# Altium integrated library Linear Technology Power Management uModule Regulators.IntLib: 166 symbols (part 21 of 67)
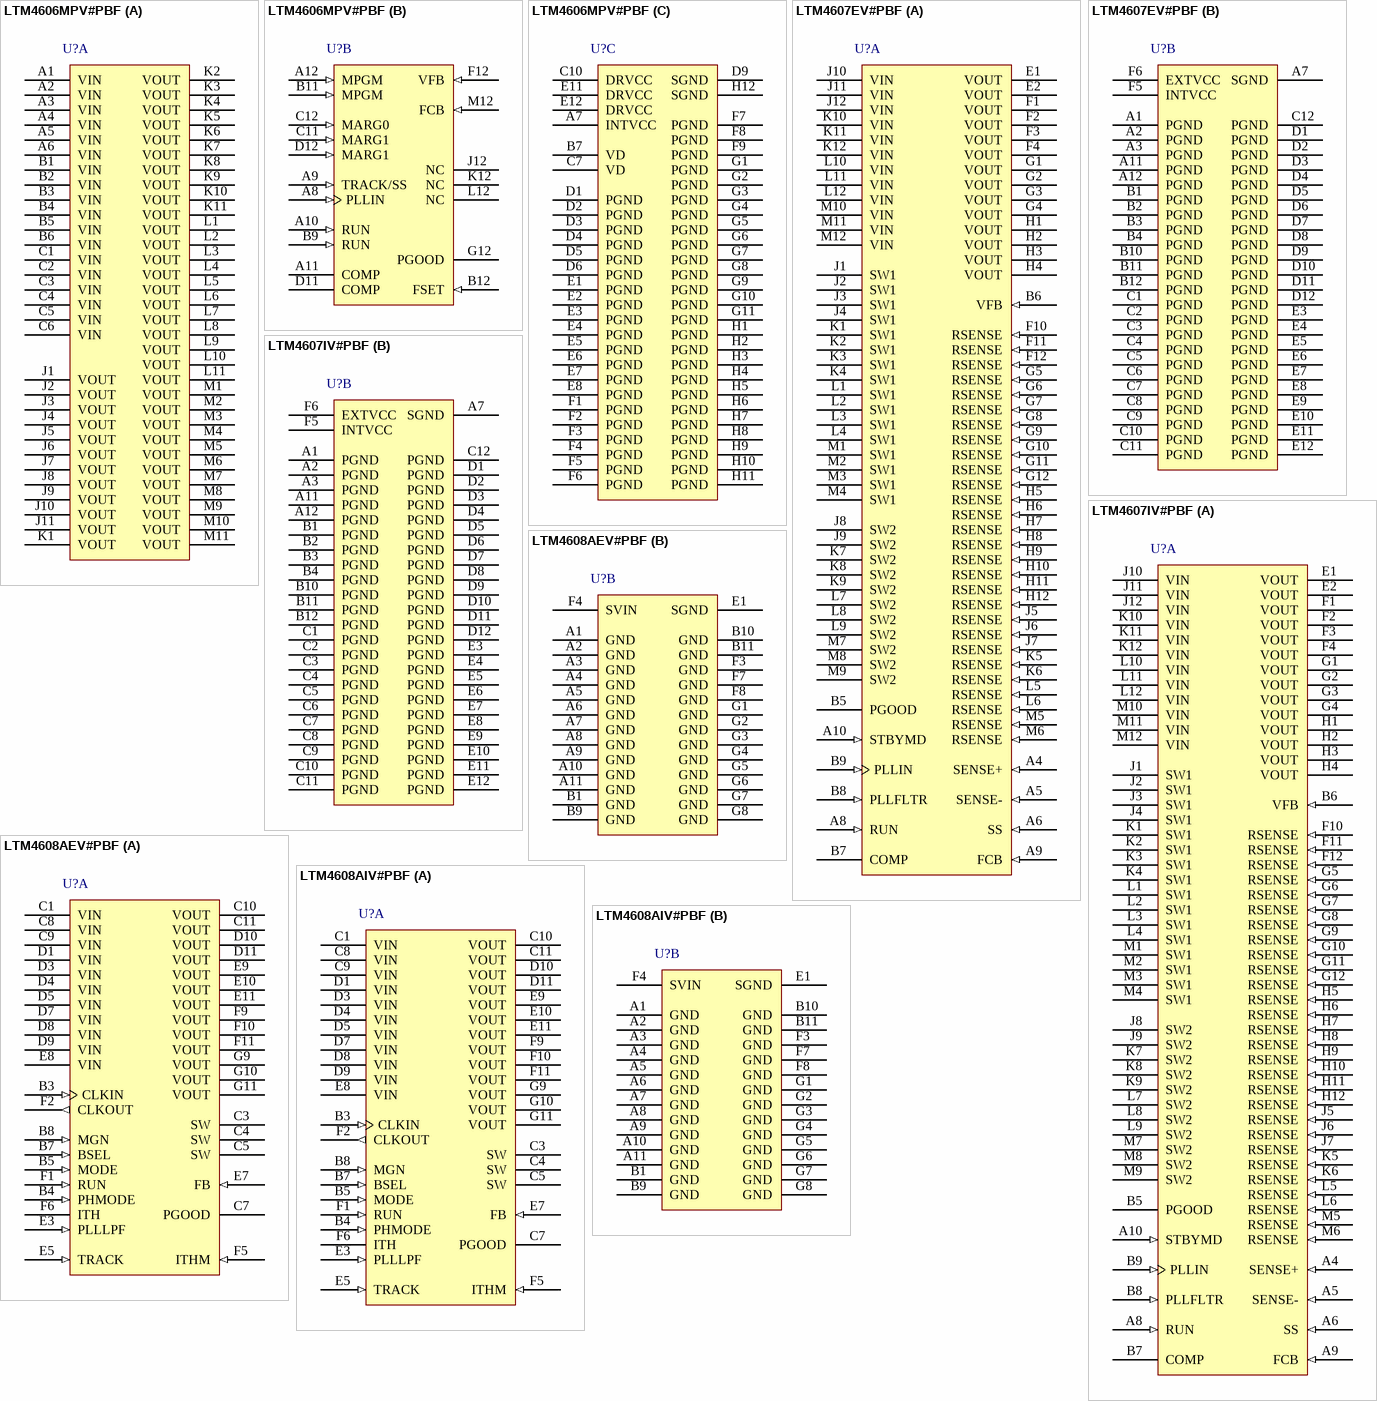
[diagram p47: symbols LTM4606MPV#PBF to LTM4608AIV#PBF]

## LTM4607EV#PBF
designator U?
36 VIN, 24 VOUT High Efficiency Buck-Boost DC/DC uModule Regulator, 141-pin LGA, -40 to 85 degC, Pb-Free, Tray; Manufacturer: Linear Technology; PartNumber: LTM4607EV#PBF; Extended Temp: E, I; Frequency Sync Range: 200kHz - 400kHz; Frequency(kHz): 200; Ishutdown(uA): 35; Isupply(mA): 2.8; Number of Outputs: 1; Output Current(A): 5; Synchronous: yes; Tracking: no; Vin Max(V): 36; Vin Min(V): 4.5; Vout Max(V): 24; Vout Min(V): 0.8; DatasheetVersion: Rev. B; PackageVersion: Rev. C, 02/2013; PackageReference: LGA-141; PackageDescription: 141-Pin LGA, Body 15 x 15 mm, Pitch 1.27 mm; Supplier 1: Digi-Key; Supplier Part Number 1: LTM4607EV#PBF-ND; Supplier 2: Farnell; Supplier Part Number 2: 1710871; Supplier 3: Newark; Supplier Part Number 3: 79M3636; Packing: Tray; RoHS: TRUE; Topology: Buck-Boost; Mounting Technology: Surface Mount; Code_JEDEC: MO-222; ComponentLink1Description: Manufacturer URL; ComponentLink1URL: http://www.linear.com/; ComponentLink2Description: Datasheet; ComponentLink2URL: http://cds.linear.com/docs/en/datasheet/4607fb.pdf; ComponentLink3Description: Package Specification; ComponentLink3URL: http://cds.linear.com/docs/en/packaging/05081815_C_lga141.pdf
footprint LT-LGA-141-05-08-1815_V (LGA, 141-Leads, Body 15x15mm, Pitch 1.27mm)
part A pins: A4 SENSE+ (in) "Positive Input to the Current Sense and Reverse Current Detect Comparators.", A5 SENSE- (in) "Negative Input to the Current Sense and Reverse Current Detect Comparators.", A6 SS (in) "Soft-Start Pin. Soft-start reduces the input surge current from the power source by gradually increasing the controller’s current limit.", A8 RUN (in) "Run Control Pin. A voltage below 1.6V will turn off the module. There is a 100k resistor between the RUN pin and SGND in the module. Do not apply more than 6V to this pin. See the Applications Information section.", A9 FCB (in) "Forced Continuous Control Input. The voltage applied to this pin sets the operating mode of the module. When the applied voltage is less than 0.8V, the forced continuous current mode is active in boost operation and the skip (See Datasheet)", A10 STBYMD (in) "LDO Control Pin. Determines whether the internal LDO remains active when the controller is shut down. See Operations section for details. If the STBYMD pin is pulled to ground, the SS pin is internally pulled to ground to (See Datasheet)", B5 PGOOD (oc), B6 VFB (in) "The Negative Input of the Error Amplifier. Internally, this pin is connected to VOUT with a 100k precision resistor. Different output voltages can be programmed with an additional resistor between VFB and SGND pins. See the (See Datasheet)", B7 COMP "Current Control Threshold and Error Amplifier Compensation Point. The current comparator threshold increases with this control voltage. The voltage ranges from 0V to 2.4V.", B8 PLLFLTR (in) "The lowpass filter of the phase-locked loop is tied to this pin. This pin can also be used to set the frequency of the internal oscillator with an AC or DC voltage. See the Applications Information section for details.", B9 PLLIN (in) "External Clock Synchronization Input to the Phase Detector. This pin is internally terminated to SGND with a 50k resistor. The phase-locked loop will force the rising bottom gate signal of the controller to be synchronized (See Datasheet)", E1 VOUT (power) "Power Output Pins. Apply output load between these pins and PGND pins. Recommend placing output decoupling capacitance directly between these pins and PGND pins.", E2 VOUT (power) "Power Output Pins. Apply output load between these pins and PGND pins. Recommend placing output decoupling capacitance directly between these pins and PGND pins.", F1 VOUT (power) "Power Output Pins. Apply output load between these pins and PGND pins. Recommend placing output decoupling capacitance directly between these pins and PGND pins.", F2 VOUT (power) "Power Output Pins. Apply output load between these pins and PGND pins. Recommend placing output decoupling capacitance directly between these pins and PGND pins.", F3 VOUT (power) "Power Output Pins. Apply output load between these pins and PGND pins. Recommend placing output decoupling capacitance directly between these pins and PGND pins.", F4 VOUT (power) "Power Output Pins. Apply output load between these pins and PGND pins. Recommend placing output decoupling capacitance directly between these pins and PGND pins.", F10 RSENSE (in) "Sensing Resistor Pin. The sensing resistor is connected from this pin to PGND.", F11 RSENSE (in) "Sensing Resistor Pin. The sensing resistor is connected from this pin to PGND.", F12 RSENSE (in) "Sensing Resistor Pin. The sensing resistor is connected from this pin to PGND.", G1 VOUT (power) "Power Output Pins. Apply output load between these pins and PGND pins. Recommend placing output decoupling capacitance directly between these pins and PGND pins.", G2 VOUT (power) "Power Output Pins. Apply output load between these pins and PGND pins. Recommend placing output decoupling capacitance directly between these pins and PGND pins.", G3 VOUT (power) "Power Output Pins. Apply output load between these pins and PGND pins. Recommend placing output decoupling capacitance directly between these pins and PGND pins.", G4 VOUT (power) "Power Output Pins. Apply output load between these pins and PGND pins. Recommend placing output decoupling capacitance directly between these pins and PGND pins.", G5 RSENSE (in) "Sensing Resistor Pin. The sensing resistor is connected from this pin to PGND.", G6 RSENSE (in) "Sensing Resistor Pin. The sensing resistor is connected from this pin to PGND.", G7 RSENSE (in) "Sensing Resistor Pin. The sensing resistor is connected from this pin to PGND.", G8 RSENSE (in) "Sensing Resistor Pin. The sensing resistor is connected from this pin to PGND.", G9 RSENSE (in) "Sensing Resistor Pin. The sensing resistor is connected from this pin to PGND.", G10 RSENSE (in) "Sensing Resistor Pin. The sensing resistor is connected from this pin to PGND.", G11 RSENSE (in) "Sensing Resistor Pin. The sensing resistor is connected from this pin to PGND.", G12 RSENSE (in) "Sensing Resistor Pin. The sensing resistor is connected from this pin to PGND.", H1 VOUT (power) "Power Output Pins. Apply output load between these pins and PGND pins. Recommend placing output decoupling capacitance directly between these pins and PGND pins.", H2 VOUT (power) "Power Output Pins. Apply output load between these pins and PGND pins. Recommend placing output decoupling capacitance directly between these pins and PGND pins.", H3 VOUT (power) "Power Output Pins. Apply output load between these pins and PGND pins. Recommend placing output decoupling capacitance directly between these pins and PGND pins.", H4 VOUT (power) "Power Output Pins. Apply output load between these pins and PGND pins. Recommend placing output decoupling capacitance directly between these pins and PGND pins.", H5 RSENSE (in) "Sensing Resistor Pin. The sensing resistor is connected from this pin to PGND.", H6 RSENSE (in) "Sensing Resistor Pin. The sensing resistor is connected from this pin to PGND.", H7 RSENSE (in) "Sensing Resistor Pin. The sensing resistor is connected from this pin to PGND.", H8 RSENSE (in) "Sensing Resistor Pin. The sensing resistor is connected from this pin to PGND.", H9 RSENSE (in) "Sensing Resistor Pin. The sensing resistor is connected from this pin to PGND.", H10 RSENSE (in) "Sensing Resistor Pin. The sensing resistor is connected from this pin to PGND.", H11 RSENSE (in) "Sensing Resistor Pin. The sensing resistor is connected from this pin to PGND.", H12 RSENSE (in) "Sensing Resistor Pin. The sensing resistor is connected from this pin to PGND.", J1 SW1 "Switch Nodes. The power inductor is connected between SW1 and SW2.", J2 SW1 "Switch Nodes. The power inductor is connected between SW1 and SW2.", J3 SW1 "Switch Nodes. The power inductor is connected between SW1 and SW2.", J4 SW1 "Switch Nodes. The power inductor is connected between SW1 and SW2.", J5 RSENSE (in) "Sensing Resistor Pin. The sensing resistor is connected from this pin to PGND.", J6 RSENSE (in) "Sensing Resistor Pin. The sensing resistor is connected from this pin to PGND.", J7 RSENSE (in) "Sensing Resistor Pin. The sensing resistor is connected from this pin to PGND.", J8 SW2 "Switch Nodes. The power inductor is connected between SW1 and SW2.", J9 SW2 "Switch Nodes. The power inductor is connected between SW1 and SW2.", J10 VIN (power) "Power Input Pins. Apply input voltage between these pins and PGND pins. Recommend placing input decoupling capacitance directly between VIN pins and PGND pins.", J11 VIN (power) "Power Input Pins. Apply input voltage between these pins and PGND pins. Recommend placing input decoupling capacitance directly between VIN pins and PGND pins.", J12 VIN (power) "Power Input Pins. Apply input voltage between these pins and PGND pins. Recommend placing input decoupling capacitance directly between VIN pins and PGND pins.", K1 SW1 "Switch Nodes. The power inductor is connected between SW1 and SW2.", K2 SW1 "Switch Nodes. The power inductor is connected between SW1 and SW2.", K3 SW1 "Switch Nodes. The power inductor is connected between SW1 and SW2.", K4 SW1 "Switch Nodes. The power inductor is connected between SW1 and SW2.", K5 RSENSE (in) "Sensing Resistor Pin. The sensing resistor is connected from this pin to PGND.", K6 RSENSE (in) "Sensing Resistor Pin. The sensing resistor is connected from this pin to PGND.", K7 SW2 "Switch Nodes. The power inductor is connected between SW1 and SW2.", K8 SW2 "Switch Nodes. The power inductor is connected between SW1 and SW2.", K9 SW2 "Switch Nodes. The power inductor is connected between SW1 and SW2.", K10 VIN (power) "Power Input Pins. Apply input voltage between these pins and PGND pins. Recommend placing input decoupling capacitance directly between VIN pins and PGND pins.", K11 VIN (power) "Power Input Pins. Apply input voltage between these pins and PGND pins. Recommend placing input decoupling capacitance directly between VIN pins and PGND pins.", K12 VIN (power) "Power Input Pins. Apply input voltage between these pins and PGND pins. Recommend placing input decoupling capacitance directly between VIN pins and PGND pins.", L1 SW1 "Switch Nodes. The power inductor is connected between SW1 and SW2.", L2 SW1 "Switch Nodes. The power inductor is connected between SW1 and SW2.", L3 SW1 "Switch Nodes. The power inductor is connected between SW1 and SW2.", L4 SW1 "Switch Nodes. The power inductor is connected between SW1 and SW2.", L5 RSENSE (in) "Sensing Resistor Pin. The sensing resistor is connected from this pin to PGND.", L6 RSENSE (in) "Sensing Resistor Pin. The sensing resistor is connected from this pin to PGND.", L7 SW2 "Switch Nodes. The power inductor is connected between SW1 and SW2.", L8 SW2 "Switch Nodes. The power inductor is connected between SW1 and SW2.", L9 SW2 "Switch Nodes. The power inductor is connected between SW1 and SW2.", L10 VIN (power) "Power Input Pins. Apply input voltage between these pins and PGND pins. Recommend placing input decoupling capacitance directly between VIN pins and PGND pins.", L11 VIN (power) "Power Input Pins. Apply input voltage between these pins and PGND pins. Recommend placing input decoupling capacitance directly between VIN pins and PGND pins.", L12 VIN (power) "Power Input Pins. Apply input voltage between these pins and PGND pins. Recommend placing input decoupling capacitance directly between VIN pins and PGND pins.", M1 SW1 "Switch Nodes. The power inductor is connected between SW1 and SW2.", M2 SW1 "Switch Nodes. The power inductor is connected between SW1 and SW2.", M3 SW1 "Switch Nodes. The power inductor is connected between SW1 and SW2.", M4 SW1 "Switch Nodes. The power inductor is connected between SW1 and SW2.", M5 RSENSE (in) "Sensing Resistor Pin. The sensing resistor is connected from this pin to PGND.", M6 RSENSE (in) "Sensing Resistor Pin. The sensing resistor is connected from this pin to PGND.", M7 SW2 "Switch Nodes. The power inductor is connected between SW1 and SW2.", M8 SW2 "Switch Nodes. The power inductor is connected between SW1 and SW2.", M9 SW2 "Switch Nodes. The power inductor is connected between SW1 and SW2.", M10 VIN (power) "Power Input Pins. Apply input voltage between these pins and PGND pins. Recommend placing input decoupling capacitance directly between VIN pins and PGND pins.", M11 VIN (power) "Power Input Pins. Apply input voltage between these pins and PGND pins. Recommend placing input decoupling capacitance directly between VIN pins and PGND pins.", M12 VIN (power) "Power Input Pins. Apply input voltage between these pins and PGND pins. Recommend placing input decoupling capacitance directly between VIN pins and PGND pins."
part B pins: A1 PGND (power) "Power Ground Pins for Both Input and Output Returns.", A2 PGND (power) "Power Ground Pins for Both Input and Output Returns.", A3 PGND (power) "Power Ground Pins for Both Input and Output Returns.", A7 SGND (power) "Signal Ground Pin. This pin connects to PGND at output capacitor point.", A11 PGND (power) "Power Ground Pins for Both Input and Output Returns.", A12 PGND (power) "Power Ground Pins for Both Input and Output Returns.", B1 PGND (power) "Power Ground Pins for Both Input and Output Returns.", B2 PGND (power) "Power Ground Pins for Both Input and Output Returns.", B3 PGND (power) "Power Ground Pins for Both Input and Output Returns.", B4 PGND (power) "Power Ground Pins for Both Input and Output Returns.", B10 PGND (power) "Power Ground Pins for Both Input and Output Returns.", B11 PGND (power) "Power Ground Pins for Both Input and Output Returns.", B12 PGND (power) "Power Ground Pins for Both Input and Output Returns.", C1 PGND (power) "Power Ground Pins for Both Input and Output Returns.", C2 PGND (power) "Power Ground Pins for Both Input and Output Returns.", C3 PGND (power) "Power Ground Pins for Both Input and Output Returns.", C4 PGND (power) "Power Ground Pins for Both Input and Output Returns.", C5 PGND (power) "Power Ground Pins for Both Input and Output Returns.", C6 PGND (power) "Power Ground Pins for Both Input and Output Returns.", C7 PGND (power) "Power Ground Pins for Both Input and Output Returns.", C8 PGND (power) "Power Ground Pins for Both Input and Output Returns.", C9 PGND (power) "Power Ground Pins for Both Input and Output Returns.", C10 PGND (power) "Power Ground Pins for Both Input and Output Returns.", C11 PGND (power) "Power Ground Pins for Both Input and Output Returns.", C12 PGND (power) "Power Ground Pins for Both Input and Output Returns.", D1 PGND (power) "Power Ground Pins for Both Input and Output Returns.", D2 PGND (power) "Power Ground Pins for Both Input and Output Returns.", D3 PGND (power) "Power Ground Pins for Both Input and Output Returns.", D4 PGND (power) "Power Ground Pins for Both Input and Output Returns.", D5 PGND (power) "Power Ground Pins for Both Input and Output Returns.", D6 PGND (power) "Power Ground Pins for Both Input and Output Returns.", D7 PGND (power) "Power Ground Pins for Both Input and Output Returns.", D8 PGND (power) "Power Ground Pins for Both Input and Output Returns.", D9 PGND (power) "Power Ground Pins for Both Input and Output Returns.", D10 PGND (power) "Power Ground Pins for Both Input and Output Returns.", D11 PGND (power) "Power Ground Pins for Both Input and Output Returns.", D12 PGND (power) "Power Ground Pins for Both Input and Output Returns.", E3 PGND (power) "Power Ground Pins for Both Input and Output Returns.", E4 PGND (power) "Power Ground Pins for Both Input and Output Returns.", E5 PGND (power) "Power Ground Pins for Both Input and Output Returns.", E6 PGND (power) "Power Ground Pins for Both Input and Output Returns.", E7 PGND (power) "Power Ground Pins for Both Input and Output Returns.", E8 PGND (power) "Power Ground Pins for Both Input and Output Returns.", E9 PGND (power) "Power Ground Pins for Both Input and Output Returns.", E10 PGND (power) "Power Ground Pins for Both Input and Output Returns.", E11 PGND (power) "Power Ground Pins for Both Input and Output Returns.", E12 PGND (power) "Power Ground Pins for Both Input and Output Returns.", F5 INTVCC (power), F6 EXTVCC (power) "External VCC Input. When EXTVCC exceeds 5.7V, an internal switch connects this pin to INTVCC and shuts down the internal regulator so that the controller and gate drive power is drawn from EXTVCC. Do not exceed 7V at this (See Datasheet)"

## LTM4607IV#PBF
designator U?
36 VIN, 24 VOUT High Efficiency Buck-Boost DC/DC uModule Regulator, 141-pin LGA, -40 to 85 degC, Pb-Free, Tray; Manufacturer: Linear Technology; PartNumber: LTM4607IV#PBF; Extended Temp: E, I; Frequency Sync Range: 200kHz - 400kHz; Frequency(kHz): 200; Ishutdown(uA): 35; Isupply(mA): 2.8; Number of Outputs: 1; Output Current(A): 5; Synchronous: yes; Tracking: no; Vin Max(V): 36; Vin Min(V): 4.5; Vout Max(V): 24; Vout Min(V): 0.8; DatasheetVersion: Rev. B; PackageVersion: Rev. C, 02/2013; PackageReference: LGA-141; PackageDescription: 141-Pin LGA, Body 15 x 15 mm, Pitch 1.27 mm; Supplier 1: Digi-Key; Supplier Part Number 1: LTM4607IV#PBF-ND; Supplier 2: Farnell; Supplier Part Number 2: 1710884; Supplier 3: Newark; Supplier Part Number 3: 79M3637; Packing: Tray; RoHS: TRUE; Topology: Buck-Boost; Mounting Technology: Surface Mount; Code_JEDEC: MO-222; ComponentLink1Description: Manufacturer URL; ComponentLink1URL: http://www.linear.com/; ComponentLink2Description: Datasheet; ComponentLink2URL: http://cds.linear.com/docs/en/datasheet/4607fb.pdf; ComponentLink3Description: Package Specification; ComponentLink3URL: http://cds.linear.com/docs/en/packaging/05081815_C_lga141.pdf
footprint LT-LGA-141-05-08-1815_V (LGA, 141-Leads, Body 15x15mm, Pitch 1.27mm)
part A pins: A4 SENSE+ (in) "Positive Input to the Current Sense and Reverse Current Detect Comparators.", A5 SENSE- (in) "Negative Input to the Current Sense and Reverse Current Detect Comparators.", A6 SS (in) "Soft-Start Pin. Soft-start reduces the input surge current from the power source by gradually increasing the controller’s current limit.", A8 RUN (in) "Run Control Pin. A voltage below 1.6V will turn off the module. There is a 100k resistor between the RUN pin and SGND in the module. Do not apply more than 6V to this pin. See the Applications Information section.", A9 FCB (in) "Forced Continuous Control Input. The voltage applied to this pin sets the operating mode of the module. When the applied voltage is less than 0.8V, the forced continuous current mode is active in boost operation and the skip (See Datasheet)", A10 STBYMD (in) "LDO Control Pin. Determines whether the internal LDO remains active when the controller is shut down. See Operations section for details. If the STBYMD pin is pulled to ground, the SS pin is internally pulled to ground to (See Datasheet)", B5 PGOOD (oc), B6 VFB (in) "The Negative Input of the Error Amplifier. Internally, this pin is connected to VOUT with a 100k precision resistor. Different output voltages can be programmed with an additional resistor between VFB and SGND pins. See the (See Datasheet)", B7 COMP "Current Control Threshold and Error Amplifier Compensation Point. The current comparator threshold increases with this control voltage. The voltage ranges from 0V to 2.4V.", B8 PLLFLTR (in) "The lowpass filter of the phase-locked loop is tied to this pin. This pin can also be used to set the frequency of the internal oscillator with an AC or DC voltage. See the Applications Information section for details.", B9 PLLIN (in) "External Clock Synchronization Input to the Phase Detector. This pin is internally terminated to SGND with a 50k resistor. The phase-locked loop will force the rising bottom gate signal of the controller to be synchronized (See Datasheet)", E1 VOUT (power) "Power Output Pins. Apply output load between these pins and PGND pins. Recommend placing output decoupling capacitance directly between these pins and PGND pins.", E2 VOUT (power) "Power Output Pins. Apply output load between these pins and PGND pins. Recommend placing output decoupling capacitance directly between these pins and PGND pins.", F1 VOUT (power) "Power Output Pins. Apply output load between these pins and PGND pins. Recommend placing output decoupling capacitance directly between these pins and PGND pins.", F2 VOUT (power) "Power Output Pins. Apply output load between these pins and PGND pins. Recommend placing output decoupling capacitance directly between these pins and PGND pins.", F3 VOUT (power) "Power Output Pins. Apply output load between these pins and PGND pins. Recommend placing output decoupling capacitance directly between these pins and PGND pins.", F4 VOUT (power) "Power Output Pins. Apply output load between these pins and PGND pins. Recommend placing output decoupling capacitance directly between these pins and PGND pins.", F10 RSENSE (in) "Sensing Resistor Pin. The sensing resistor is connected from this pin to PGND.", F11 RSENSE (in) "Sensing Resistor Pin. The sensing resistor is connected from this pin to PGND.", F12 RSENSE (in) "Sensing Resistor Pin. The sensing resistor is connected from this pin to PGND.", G1 VOUT (power) "Power Output Pins. Apply output load between these pins and PGND pins. Recommend placing output decoupling capacitance directly between these pins and PGND pins.", G2 VOUT (power) "Power Output Pins. Apply output load between these pins and PGND pins. Recommend placing output decoupling capacitance directly between these pins and PGND pins.", G3 VOUT (power) "Power Output Pins. Apply output load between these pins and PGND pins. Recommend placing output decoupling capacitance directly between these pins and PGND pins.", G4 VOUT (power) "Power Output Pins. Apply output load between these pins and PGND pins. Recommend placing output decoupling capacitance directly between these pins and PGND pins.", G5 RSENSE (in) "Sensing Resistor Pin. The sensing resistor is connected from this pin to PGND.", G6 RSENSE (in) "Sensing Resistor Pin. The sensing resistor is connected from this pin to PGND.", G7 RSENSE (in) "Sensing Resistor Pin. The sensing resistor is connected from this pin to PGND.", G8 RSENSE (in) "Sensing Resistor Pin. The sensing resistor is connected from this pin to PGND.", G9 RSENSE (in) "Sensing Resistor Pin. The sensing resistor is connected from this pin to PGND.", G10 RSENSE (in) "Sensing Resistor Pin. The sensing resistor is connected from this pin to PGND.", G11 RSENSE (in) "Sensing Resistor Pin. The sensing resistor is connected from this pin to PGND.", G12 RSENSE (in) "Sensing Resistor Pin. The sensing resistor is connected from this pin to PGND.", H1 VOUT (power) "Power Output Pins. Apply output load between these pins and PGND pins. Recommend placing output decoupling capacitance directly between these pins and PGND pins.", H2 VOUT (power) "Power Output Pins. Apply output load between these pins and PGND pins. Recommend placing output decoupling capacitance directly between these pins and PGND pins.", H3 VOUT (power) "Power Output Pins. Apply output load between these pins and PGND pins. Recommend placing output decoupling capacitance directly between these pins and PGND pins.", H4 VOUT (power) "Power Output Pins. Apply output load between these pins and PGND pins. Recommend placing output decoupling capacitance directly between these pins and PGND pins.", H5 RSENSE (in) "Sensing Resistor Pin. The sensing resistor is connected from this pin to PGND.", H6 RSENSE (in) "Sensing Resistor Pin. The sensing resistor is connected from this pin to PGND.", H7 RSENSE (in) "Sensing Resistor Pin. The sensing resistor is connected from this pin to PGND.", H8 RSENSE (in) "Sensing Resistor Pin. The sensing resistor is connected from this pin to PGND.", H9 RSENSE (in) "Sensing Resistor Pin. The sensing resistor is connected from this pin to PGND.", H10 RSENSE (in) "Sensing Resistor Pin. The sensing resistor is connected from this pin to PGND.", H11 RSENSE (in) "Sensing Resistor Pin. The sensing resistor is connected from this pin to PGND.", H12 RSENSE (in) "Sensing Resistor Pin. The sensing resistor is connected from this pin to PGND.", J1 SW1 "Switch Nodes. The power inductor is connected between SW1 and SW2.", J2 SW1 "Switch Nodes. The power inductor is connected between SW1 and SW2.", J3 SW1 "Switch Nodes. The power inductor is connected between SW1 and SW2.", J4 SW1 "Switch Nodes. The power inductor is connected between SW1 and SW2.", J5 RSENSE (in) "Sensing Resistor Pin. The sensing resistor is connected from this pin to PGND.", J6 RSENSE (in) "Sensing Resistor Pin. The sensing resistor is connected from this pin to PGND.", J7 RSENSE (in) "Sensing Resistor Pin. The sensing resistor is connected from this pin to PGND.", J8 SW2 "Switch Nodes. The power inductor is connected between SW1 and SW2.", J9 SW2 "Switch Nodes. The power inductor is connected between SW1 and SW2.", J10 VIN (power) "Power Input Pins. Apply input voltage between these pins and PGND pins. Recommend placing input decoupling capacitance directly between VIN pins and PGND pins.", J11 VIN (power) "Power Input Pins. Apply input voltage between these pins and PGND pins. Recommend placing input decoupling capacitance directly between VIN pins and PGND pins.", J12 VIN (power) "Power Input Pins. Apply input voltage between these pins and PGND pins. Recommend placing input decoupling capacitance directly between VIN pins and PGND pins.", K1 SW1 "Switch Nodes. The power inductor is connected between SW1 and SW2.", K2 SW1 "Switch Nodes. The power inductor is connected between SW1 and SW2.", K3 SW1 "Switch Nodes. The power inductor is connected between SW1 and SW2.", K4 SW1 "Switch Nodes. The power inductor is connected between SW1 and SW2.", K5 RSENSE (in) "Sensing Resistor Pin. The sensing resistor is connected from this pin to PGND.", K6 RSENSE (in) "Sensing Resistor Pin. The sensing resistor is connected from this pin to PGND.", K7 SW2 "Switch Nodes. The power inductor is connected between SW1 and SW2.", K8 SW2 "Switch Nodes. The power inductor is connected between SW1 and SW2.", K9 SW2 "Switch Nodes. The power inductor is connected between SW1 and SW2.", K10 VIN (power) "Power Input Pins. Apply input voltage between these pins and PGND pins. Recommend placing input decoupling capacitance directly between VIN pins and PGND pins.", K11 VIN (power) "Power Input Pins. Apply input voltage between these pins and PGND pins. Recommend placing input decoupling capacitance directly between VIN pins and PGND pins.", K12 VIN (power) "Power Input Pins. Apply input voltage between these pins and PGND pins. Recommend placing input decoupling capacitance directly between VIN pins and PGND pins.", L1 SW1 "Switch Nodes. The power inductor is connected between SW1 and SW2.", L2 SW1 "Switch Nodes. The power inductor is connected between SW1 and SW2.", L3 SW1 "Switch Nodes. The power inductor is connected between SW1 and SW2.", L4 SW1 "Switch Nodes. The power inductor is connected between SW1 and SW2.", L5 RSENSE (in) "Sensing Resistor Pin. The sensing resistor is connected from this pin to PGND.", L6 RSENSE (in) "Sensing Resistor Pin. The sensing resistor is connected from this pin to PGND.", L7 SW2 "Switch Nodes. The power inductor is connected between SW1 and SW2.", L8 SW2 "Switch Nodes. The power inductor is connected between SW1 and SW2.", L9 SW2 "Switch Nodes. The power inductor is connected between SW1 and SW2.", L10 VIN (power) "Power Input Pins. Apply input voltage between these pins and PGND pins. Recommend placing input decoupling capacitance directly between VIN pins and PGND pins.", L11 VIN (power) "Power Input Pins. Apply input voltage between these pins and PGND pins. Recommend placing input decoupling capacitance directly between VIN pins and PGND pins.", L12 VIN (power) "Power Input Pins. Apply input voltage between these pins and PGND pins. Recommend placing input decoupling capacitance directly between VIN pins and PGND pins.", M1 SW1 "Switch Nodes. The power inductor is connected between SW1 and SW2.", M2 SW1 "Switch Nodes. The power inductor is connected between SW1 and SW2.", M3 SW1 "Switch Nodes. The power inductor is connected between SW1 and SW2.", M4 SW1 "Switch Nodes. The power inductor is connected between SW1 and SW2.", M5 RSENSE (in) "Sensing Resistor Pin. The sensing resistor is connected from this pin to PGND.", M6 RSENSE (in) "Sensing Resistor Pin. The sensing resistor is connected from this pin to PGND.", M7 SW2 "Switch Nodes. The power inductor is connected between SW1 and SW2.", M8 SW2 "Switch Nodes. The power inductor is connected between SW1 and SW2.", M9 SW2 "Switch Nodes. The power inductor is connected between SW1 and SW2.", M10 VIN (power) "Power Input Pins. Apply input voltage between these pins and PGND pins. Recommend placing input decoupling capacitance directly between VIN pins and PGND pins.", M11 VIN (power) "Power Input Pins. Apply input voltage between these pins and PGND pins. Recommend placing input decoupling capacitance directly between VIN pins and PGND pins.", M12 VIN (power) "Power Input Pins. Apply input voltage between these pins and PGND pins. Recommend placing input decoupling capacitance directly between VIN pins and PGND pins."
part B pins: A1 PGND (power) "Power Ground Pins for Both Input and Output Returns.", A2 PGND (power) "Power Ground Pins for Both Input and Output Returns.", A3 PGND (power) "Power Ground Pins for Both Input and Output Returns.", A7 SGND (power) "Signal Ground Pin. This pin connects to PGND at output capacitor point.", A11 PGND (power) "Power Ground Pins for Both Input and Output Returns.", A12 PGND (power) "Power Ground Pins for Both Input and Output Returns.", B1 PGND (power) "Power Ground Pins for Both Input and Output Returns.", B2 PGND (power) "Power Ground Pins for Both Input and Output Returns.", B3 PGND (power) "Power Ground Pins for Both Input and Output Returns.", B4 PGND (power) "Power Ground Pins for Both Input and Output Returns.", B10 PGND (power) "Power Ground Pins for Both Input and Output Returns.", B11 PGND (power) "Power Ground Pins for Both Input and Output Returns.", B12 PGND (power) "Power Ground Pins for Both Input and Output Returns.", C1 PGND (power) "Power Ground Pins for Both Input and Output Returns.", C2 PGND (power) "Power Ground Pins for Both Input and Output Returns.", C3 PGND (power) "Power Ground Pins for Both Input and Output Returns.", C4 PGND (power) "Power Ground Pins for Both Input and Output Returns.", C5 PGND (power) "Power Ground Pins for Both Input and Output Returns.", C6 PGND (power) "Power Ground Pins for Both Input and Output Returns.", C7 PGND (power) "Power Ground Pins for Both Input and Output Returns.", C8 PGND (power) "Power Ground Pins for Both Input and Output Returns.", C9 PGND (power) "Power Ground Pins for Both Input and Output Returns.", C10 PGND (power) "Power Ground Pins for Both Input and Output Returns.", C11 PGND (power) "Power Ground Pins for Both Input and Output Returns.", C12 PGND (power) "Power Ground Pins for Both Input and Output Returns.", D1 PGND (power) "Power Ground Pins for Both Input and Output Returns.", D2 PGND (power) "Power Ground Pins for Both Input and Output Returns.", D3 PGND (power) "Power Ground Pins for Both Input and Output Returns.", D4 PGND (power) "Power Ground Pins for Both Input and Output Returns.", D5 PGND (power) "Power Ground Pins for Both Input and Output Returns.", D6 PGND (power) "Power Ground Pins for Both Input and Output Returns.", D7 PGND (power) "Power Ground Pins for Both Input and Output Returns.", D8 PGND (power) "Power Ground Pins for Both Input and Output Returns.", D9 PGND (power) "Power Ground Pins for Both Input and Output Returns.", D10 PGND (power) "Power Ground Pins for Both Input and Output Returns.", D11 PGND (power) "Power Ground Pins for Both Input and Output Returns.", D12 PGND (power) "Power Ground Pins for Both Input and Output Returns.", E3 PGND (power) "Power Ground Pins for Both Input and Output Returns.", E4 PGND (power) "Power Ground Pins for Both Input and Output Returns.", E5 PGND (power) "Power Ground Pins for Both Input and Output Returns.", E6 PGND (power) "Power Ground Pins for Both Input and Output Returns.", E7 PGND (power) "Power Ground Pins for Both Input and Output Returns.", E8 PGND (power) "Power Ground Pins for Both Input and Output Returns.", E9 PGND (power) "Power Ground Pins for Both Input and Output Returns.", E10 PGND (power) "Power Ground Pins for Both Input and Output Returns.", E11 PGND (power) "Power Ground Pins for Both Input and Output Returns.", E12 PGND (power) "Power Ground Pins for Both Input and Output Returns.", F5 INTVCC (power), F6 EXTVCC (power) "External VCC Input. When EXTVCC exceeds 5.7V, an internal switch connects this pin to INTVCC and shuts down the internal regulator so that the controller and gate drive power is drawn from EXTVCC. Do not exceed 7V at this (See Datasheet)"

## LTM4608AEV#PBF
designator U?
Low VIN, 8 A DC/DC uModule Regulator with Tracking, Margining, and Frequency Synchronization, 68-pin LGA, -40 to 125 degC, Pb-Free, Tray; Manufacturer: Linear Technology; PartNumber: LTM4608AEV#PBF; Extended Temp: E, I, MP; Frequency Sync Range: 750kHz - 2.25MHz; Frequency(kHz): 1500; Ishutdown(uA): 1; Isupply(mA): 0.4; Output Current(A): 8; Switch Current(A): 13; Synchronous: yes; Topology: Buck; Vin Max(V): 5.5; Vin Min(V): 2.7; Vout Max(V): 5; Vout Min(V): 0.6; DatasheetVersion: Rev. D; PackageVersion: Rev. A, 01/2013; PackageReference: LGA-68; PackageDescription: 68-Pin LGA, Body 15 x 9 mm, Pitch 1.27 mm; Supplier 1: Digi-Key; Supplier Part Number 1: LTM4608AEV#PBF-ND; Supplier 2: Farnell; Supplier Part Number 2: 1799817; Supplier 3: Newark; Supplier Part Number 3: 07P8347; Number of Outputs: 1; Packing: Tray; RoHS: TRUE; Tracking: yes; Mounting Technology: Surface Mount; Code_JEDEC: MO-222; ComponentLink1Description: Manufacturer URL; ComponentLink1URL: http://www.linear.com/; ComponentLink2Description: Datasheet; ComponentLink2URL: http://cds.linear.com/docs/en/datasheet/4608afd.pdf; ComponentLink3Description: Package Specification; ComponentLink3URL: http://cds.linear.com/docs/en/packaging/05081821_A_lga68.pdf
footprint LT-LGA-68-05-08-1821_V (LGA, 68-Leads, Body 15x9mm, Pitch 1.27mm)
part A pins: B3 CLKIN (in) "External Synchronization Input to Phase Detector. This pin is internally terminated to SGND with a 50k resistor. The phase locked loop will force the internal top power PMOS turn on to be synchronized with the rising edge of (See Datasheet)", B4 PHMODE (in) "Phase Selector Input. This pin determines the phase relationship between the internal oscillator and CLKOUT. Tie it high for 2-phase operation, tie it low for 3-phase operation, and float or tie it to VIN/2 for 4-phase (See Datasheet)", B5 MODE (in) "Mode Select Input. Tying this pin high enables Burst Mode operation. Tying this pin low enables forced continuous operation. Floating this pin or tying it to VIN/2 enables pulse-skipping operation.", B7 BSEL (in) "Margining Bit Select Pin. Tying BSEL low selects +/-5%, tying it high selects +/-10%. Floating it or tying it to VIN/2 selects +/-15%.", B8 MGN (in) "Margining Pin. Increases or decreases the output voltage by the amount specified by the BSEL pin. To disable margining, tie the MGN pin to a voltage divider with 50k resistors from VIN to ground. See the Applications (See Datasheet)", C1 VIN (power) "Power Input Pins. Apply input voltage between these pins and GND pins. Recommend placing input decoupling capacitance directly between VIN pins and GND pins.", C3 SW "Switching Node of the Circuit is Used for Testing Purposes. This can be connected to an electrically open circuit copper pad on the board for improved thermal performance.", C4 SW "Switching Node of the Circuit is Used for Testing Purposes. This can be connected to an electrically open circuit copper pad on the board for improved thermal performance.", C5 SW "Switching Node of the Circuit is Used for Testing Purposes. This can be connected to an electrically open circuit copper pad on the board for improved thermal performance.", C7 PGOOD (oc) "Output Voltage Power Good Indicator. Open-drain logic output that is pulled to ground when the output voltage is not within +/-10% of the regulation point. Disabled during margining.", C8 VIN (power) "Power Input Pins. Apply input voltage between these pins and GND pins. Recommend placing input decoupling capacitance directly between VIN pins and GND pins.", C9 VIN (power) "Power Input Pins. Apply input voltage between these pins and GND pins. Recommend placing input decoupling capacitance directly between VIN pins and GND pins.", C10 VOUT (power) "Power Output Pins. Apply output load between these pins and GND pins. Recommend placing output decoupling capacitance directly between these pins and GND pins. See Table 1.", C11 VOUT (power) "Power Output Pins. Apply output load between these pins and GND pins. Recommend placing output decoupling capacitance directly between these pins and GND pins. See Table 1.", D1 VIN (power) "Power Input Pins. Apply input voltage between these pins and GND pins. Recommend placing input decoupling capacitance directly between VIN pins and GND pins.", D3 VIN (power) "Power Input Pins. Apply input voltage between these pins and GND pins. Recommend placing input decoupling capacitance directly between VIN pins and GND pins.", D4 VIN (power) "Power Input Pins. Apply input voltage between these pins and GND pins. Recommend placing input decoupling capacitance directly between VIN pins and GND pins.", D5 VIN (power) "Power Input Pins. Apply input voltage between these pins and GND pins. Recommend placing input decoupling capacitance directly between VIN pins and GND pins.", D7 VIN (power) "Power Input Pins. Apply input voltage between these pins and GND pins. Recommend placing input decoupling capacitance directly between VIN pins and GND pins.", D8 VIN (power) "Power Input Pins. Apply input voltage between these pins and GND pins. Recommend placing input decoupling capacitance directly between VIN pins and GND pins.", D9 VIN (power) "Power Input Pins. Apply input voltage between these pins and GND pins. Recommend placing input decoupling capacitance directly between VIN pins and GND pins.", D10 VOUT (power) "Power Output Pins. Apply output load between these pins and GND pins. Recommend placing output decoupling capacitance directly between these pins and GND pins. See Table 1.", D11 VOUT (power) "Power Output Pins. Apply output load between these pins and GND pins. Recommend placing output decoupling capacitance directly between these pins and GND pins. See Table 1.", E3 PLLLPF (in) "Phase Locked Loop Lowpass Filter. An internal lowpass filter is tied to this pin. In spread spectrum mode, placing a capacitor here to SGND controls the slew rate from one frequency to the next. Alternatively, floating this (See Datasheet)", E5 TRACK (in) "Output Voltage Tracking Pin. Voltage tracking is enabled when the TRACK voltage is below 0.57V. If tracking is not desired, then connect the TRACK pin to SVIN. If TRACK is not tied to SVIN, then the TRACK pin’s voltag(See Datasheet)", E7 FB (in) "The Negative Input of the Error Amplifier. Internally, this pin is connected to VOUT with a 10k precision resistor. Different output voltages can be programmed with an additional resistor between FB and GND pins. In (See Datasheet)", E8 VIN (power) "Power Input Pins. Apply input voltage between these pins and GND pins. Recommend placing input decoupling capacitance directly between VIN pins and GND pins.", E9 VOUT (power) "Power Output Pins. Apply output load between these pins and GND pins. Recommend placing output decoupling capacitance directly between these pins and GND pins. See Table 1.", E10 VOUT (power) "Power Output Pins. Apply output load between these pins and GND pins. Recommend placing output decoupling capacitance directly between these pins and GND pins. See Table 1.", E11 VOUT (power) "Power Output Pins. Apply output load between these pins and GND pins. Recommend placing output decoupling capacitance directly between these pins and GND pins. See Table 1.", F1 RUN (in) "Run Control Pin. A voltage above 1.5V will turn on the module.", F2 CLKOUT (out) "Output Clock Signal for PolyPhase Operation. The phase of CLKOUT is determined by the state of the PHMODE pin.", F5 ITHM (in) "Negative Input to the Internal ITH Differential Amplifier. Tie this pin to SGND for single phase operation. For PolyPhase operation, tie the master’s ITHM to SGND while connecting all of the ITHM pins together.", F6 ITH "Current Control Threshold and Error Amplifier Compensation Point. The current comparator threshold increases with this control voltage. Tie together in parallel operation.", F9 VOUT (power) "Power Output Pins. Apply output load between these pins and GND pins. Recommend placing output decoupling capacitance directly between these pins and GND pins. See Table 1.", F10 VOUT (power) "Power Output Pins. Apply output load between these pins and GND pins. Recommend placing output decoupling capacitance directly between these pins and GND pins. See Table 1.", F11 VOUT (power) "Power Output Pins. Apply output load between these pins and GND pins. Recommend placing output decoupling capacitance directly between these pins and GND pins. See Table 1.", G9 VOUT (power) "Power Output Pins. Apply output load between these pins and GND pins. Recommend placing output decoupling capacitance directly between these pins and GND pins. See Table 1.", G10 VOUT (power) "Power Output Pins. Apply output load between these pins and GND pins. Recommend placing output decoupling capacitance directly between these pins and GND pins. See Table 1.", G11 VOUT (power) "Power Output Pins. Apply output load between these pins and GND pins. Recommend placing output decoupling capacitance directly between these pins and GND pins. See Table 1."
part B pins: A1 GND (power) "Power Ground Pins for Both Input and Output Returns", A2 GND (power) "Power Ground Pins for Both Input and Output Returns", A3 GND (power) "Power Ground Pins for Both Input and Output Returns", A4 GND (power) "Power Ground Pins for Both Input and Output Returns", A5 GND (power) "Power Ground Pins for Both Input and Output Returns", A6 GND (power) "Power Ground Pins for Both Input and Output Returns", A7 GND (power) "Power Ground Pins for Both Input and Output Returns", A8 GND (power) "Power Ground Pins for Both Input and Output Returns", A9 GND (power) "Power Ground Pins for Both Input and Output Returns", A10 GND (power) "Power Ground Pins for Both Input and Output Returns", A11 GND (power) "Power Ground Pins for Both Input and Output Returns", B1 GND (power) "Power Ground Pins for Both Input and Output Returns", B9 GND (power) "Power Ground Pins for Both Input and Output Returns", B10 GND (power) "Power Ground Pins for Both Input and Output Returns", B11 GND (power) "Power Ground Pins for Both Input and Output Returns", E1 SGND (power) "Signal Ground Pin. Return ground path for all analog and low power circuitry. Tie a single connection to GND in the application.", F3 GND (power) "Power Ground Pins for Both Input and Output Returns", F4 SVIN (power) "Signal Input Voltage. This pin is internally connected to VIN through a lowpass filter.", F7 GND (power) "Power Ground Pins for Both Input and Output Returns", F8 GND (power) "Power Ground Pins for Both Input and Output Returns", G1 GND (power) "Power Ground Pins for Both Input and Output Returns", G2 GND (power) "Power Ground Pins for Both Input and Output Returns", G3 GND (power) "Power Ground Pins for Both Input and Output Returns", G4 GND (power) "Power Ground Pins for Both Input and Output Returns", G5 GND (power) "Power Ground Pins for Both Input and Output Returns", G6 GND (power) "Power Ground Pins for Both Input and Output Returns", G7 GND (power) "Power Ground Pins for Both Input and Output Returns", G8 GND (power) "Power Ground Pins for Both Input and Output Returns"